# EAGLE library part BQ297XY (library tilesPartComp)
TI BQ297xy Li-Po, single cell battery protection IC
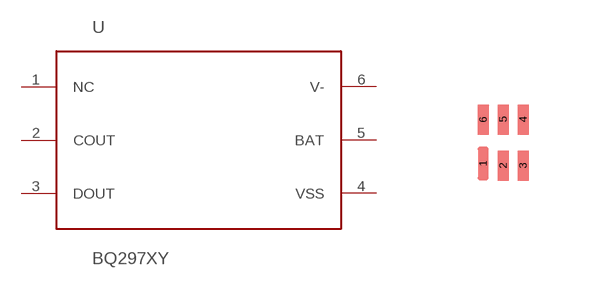
[diagram p2: symbol with the pads of WSON_6; footprint WSON_6]

Designator prefix -

## BQ297XY  [WSON_6]
1  NC
2  COUT
3  DOUT
4  VSS
5  BAT
6  V-

## Footprint WSON_6 (pad centres in mm)
WSON-DSE-6 package For TI-BQ297XY battery protection
smd 0.28 x 0.85: 1 -0.5,-0.525
smd 0.28 x 0.75: 2 0,-0.575; 3 0.5,-0.575; 4 0.5,0.575; 5 0,0.575; 6 -0.5,0.575